# Altium footprint library HK32L08x-EVAL.PcbLib: 11 footprints
Each footprint in its own frame and in the unit in brackets; x right, y up, seen from the top. Pads: shape width x height; smd on the part's side, far side on the other; paste and mask are expansions set on the pad; w line width, h text height; cw(c..) or ccw(c..) is an arc to the next point about the centre after c.
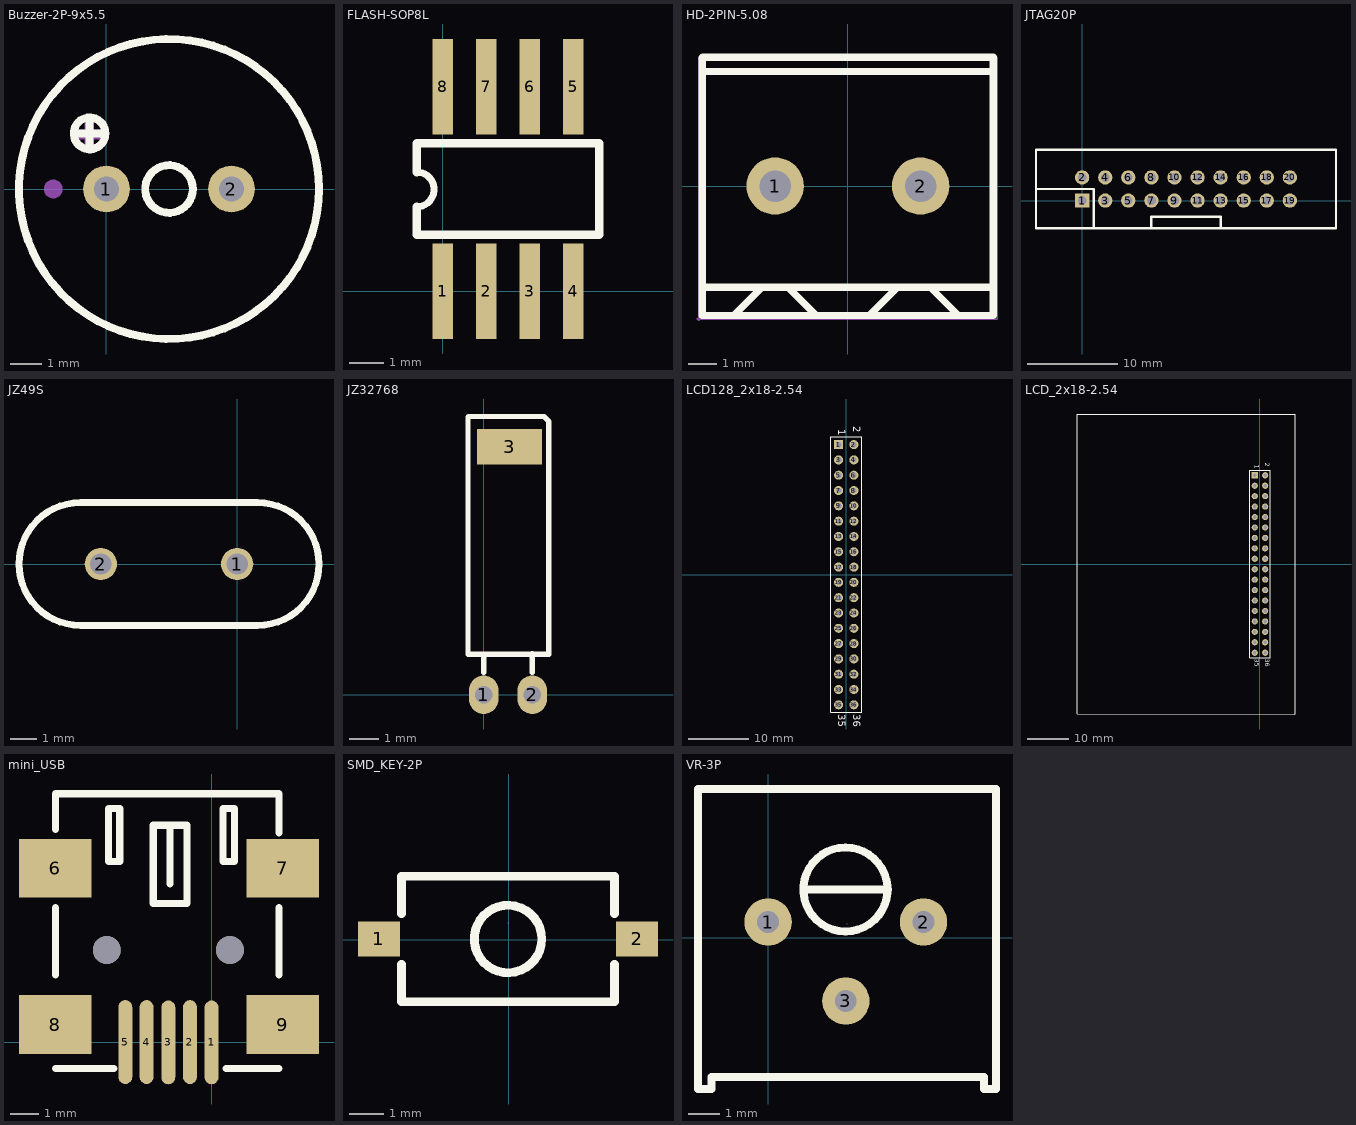
[diagram p0: the footprints below, top view; thin cyan lines are the x and y axes]

## Buzzer-2P-9x5.5 [mm]
pads (2):
  round 1.5 hole 0.8: 1(0,0) 2(4,0)
Top Overlay:
  circle w0.254: c-0.54,1.778 r0.508
  circle w0.254: c2,0 r0.762
  circle w0.254: c2,0 r4.8
  lines w0.254: -1.048,1.778 -0.032,1.778 ; -0.54,1.27 -0.54,2.286
Mechanical 15:
  circle w0.3: c-1.702,0 r0.15
  region: -1.1,1.6 -1.1,1.9 0,1.9 0,1.6
  region: -0.7,1.3 -0.7,2.2 -0.4,2.2 -0.4,1.3

## FLASH-SOP8L [mil]
pads (8):
  rect 24x110 smd: 1(0,0) 2(50,0) 3(100,0) 4(150,0) 5(150,235) 6(100,235) 7(50,235) 8(0,235)
Top Overlay:
  lines w8: -30,97 ccw(c-30,117) -30,137
  lines w10: -30,97 -30,65 180,65 180,170 -30,170 -30,137

## HD-2PIN-5.08 [mm]
pads (2):
  round 2 hole 1.1 mask+0.051: 1(-2.54,0) 2(2.54,0)
Top Overlay:
  lines w0.254: -5.08,-4.519 -5.08,4 ; -5.08,4.485 -5.08,4 ; -5.065,4.5 5.08,4.5 5.08,4 ; -5.055,-4.521 5.08,-4.521 5.08,4 ; -5.037,-3.531 5.08,-3.531 ; -3.97,-4.501 -3.01,-3.541 ; -2.08,-3.541 -1.12,-4.501 ; 0.749,-4.519 1.709,-3.559 ; 2.901,-3.559 3.861,-4.519 ; -5.08,4 5.08,4
Mechanical 15:
  region: -5.146,-4.648 -5.146,-4.623 -5.182,-4.587 -5.232,-4.587 -5.268,-4.623 -5.268,-4.648 -5.268,-4.673 -5.232,-4.709 -5.182,-4.709 -5.146,-4.673
  region: 3.091,0 3.091,0.11 3.007,0.312 2.852,0.467 2.65,0.551 2.43,0.551 2.228,0.467 2.073,0.312 1.989,0.11 1.989,0 1.989,-0.11 2.073,-0.312 2.228,-0.467 2.43,-0.551 2.65,-0.551 2.852,-0.467 3.007,-0.312 3.091,-0.11
  region: -1.989,0 -1.989,0.11 -2.073,0.312 -2.228,0.467 -2.43,0.551 -2.65,0.551 -2.852,0.467 -3.007,0.312 -3.091,0.11 -3.091,0 -3.091,-0.11 -3.007,-0.312 -2.852,-0.467 -2.65,-0.551 -2.43,-0.551 -2.228,-0.467 -2.073,-0.312 -1.989,-0.11
  lines w0.051: -5.207,-4.648 5.207,-4.648 5.207,4.5 -5.207,4.5 -5.207,-4.648

## JTAG20P [mil]
pads (20):
  rect 62x62 hole 38: 1(0,0)
  round 62 hole 38: 2(0,100) 3(100,0) 4(100,100) 5(200,0) 6(200,100) 7(300,0) 8(300,100) 9(400,0) 10(400,100) 11(500,0) 12(500,100) 13(600,0) 14(600,100) 15(700,0) 16(700,100) 17(800,0) 18(800,100) 19(900,0) 20(900,100)
Top Overlay:
  lines w10: -200,50 50,50 50,-120 ; 300,-120 300,-70 600,-70 600,-120 ; -200,-120 -200,220 1100,220 1100,-120 -200,-120

## JZ49S [mm]
pads (2):
  round 1.2 hole 0.8: 1(0,0) 2(-5.08,0)
Top Overlay:
  lines w0.254: -5.842,-2.286 cw(c-5.842,0) -5.842,2.286 0.762,2.286 cw(c0.762,0) 0.762,-2.286 -5.842,-2.286

## JZ32768 [mm]
pads (3):
  oval 1x1.3 hole 0.6: 1(0,0) 2(1.64,0)
  rect 2.2x1.2 smd: 3(0.875,8.382)
Top Overlay:
  lines w0.178: 0,0.762 0,1.37 ; 1.64,0.762 1.64,1.386 ; -0.53,1.37 2.2,1.37 2.2,8.77 2.2,9.23 2.032,9.398 -0.508,9.398 -0.53,9.376 -0.53,8.77 -0.53,1.37

## LCD128_2x18-2.54 [mm]
pads (36):
  rect 1.5x1.5 hole 0.9: 1(-1.27,21.59)
  round 1.5 hole 0.9: 2(1.27,21.59) 3(-1.27,19.05) 4(1.27,19.05) 5(-1.27,16.51) 6(1.27,16.51) 7(-1.27,13.97) 8(1.27,13.97) 9(-1.27,11.43) 10(1.27,11.43) 11(-1.27,8.89) 12(1.27,8.89) 13(-1.27,6.35) 14(1.27,6.35) 15(-1.27,3.81) 16(1.27,3.81) 17(-1.27,1.27) 18(1.27,1.27) 19(-1.27,-1.27) 20(1.27,-1.27) 21(-1.27,-3.81) 22(1.27,-3.81) 23(-1.27,-6.35) 24(1.27,-6.35) 25(-1.27,-8.89) 26(1.27,-8.89) 27(-1.27,-11.43) 28(1.27,-11.43) 29(-1.27,-13.97) 30(1.27,-13.97) 31(-1.27,-16.51) 32(1.27,-16.51) 33(-1.27,-19.05) 34(1.27,-19.05) 35(-1.27,-21.59) 36(1.27,-21.59)
Top Overlay:
  lines w0.2: -2.54,-22.86 2.54,-22.86 2.54,22.86 -2.54,22.86 -2.54,-22.86
  text "2" at 0.762,24.638 h2.03
  text "1" at -1.778,24.13 h2.03
  text "35" at -1.778,-23.114 h2.03
  text "36" at 0.762,-23.114 h2.03

## LCD_2x18-2.54 [mm]
pads (36):
  rect 1.5x1.5 hole 0.9: 1(-1.27,21.59)
  round 1.5 hole 0.9: 2(1.27,21.59) 3(-1.27,19.05) 4(1.27,19.05) 5(-1.27,16.51) 6(1.27,16.51) 7(-1.27,13.97) 8(1.27,13.97) 9(-1.27,11.43) 10(1.27,11.43) 11(-1.27,8.89) 12(1.27,8.89) 13(-1.27,6.35) 14(1.27,6.35) 15(-1.27,3.81) 16(1.27,3.81) 17(-1.27,1.27) 18(1.27,1.27) 19(-1.27,-1.27) 20(1.27,-1.27) 21(-1.27,-3.81) 22(1.27,-3.81) 23(-1.27,-6.35) 24(1.27,-6.35) 25(-1.27,-8.89) 26(1.27,-8.89) 27(-1.27,-11.43) 28(1.27,-11.43) 29(-1.27,-13.97) 30(1.27,-13.97) 31(-1.27,-16.51) 32(1.27,-16.51) 33(-1.27,-19.05) 34(1.27,-19.05) 35(-1.27,-21.59) 36(1.27,-21.59)
Top Overlay:
  lines w0.2: -44.5,-36.5 -44.5,36.5 8.5,36.5 8.5,-36.5 -44.5,-36.5 ; -2.54,-22.86 -2.54,22.86 2.54,22.86 2.54,-22.86 -2.54,-22.86
  text "36" at 0.762,-23.114 h2.03
  text "35" at -1.778,-23.114 h2.03
  text "1" at -1.778,24.13 h2.03
  text "2" at 0.762,24.638 h2.03

## mini_USB [mm]
pads (11):
  oval 0.5x3 smd: 1(0,0) 2(-0.775,0.009) 3(-1.549,0) 4(-2.324,0.009) 5(-3.086,0.009)
  rect 2.6x2.1 smd: 6(-5.588,6.223) 7(2.54,6.223) 8(-5.588,0.635) 9(2.54,0.635)
  round 1 hole 1: ""(-3.749,3.299) ""(0.651,3.299)
Top Overlay:
  lines w0.254: -5.588,2.413 -5.588,4.826 ; -5.586,-0.938 -3.486,-0.938 ; -5.586,7.62 -5.586,8.89 2.414,8.89 2.414,7.493 ; -1.486,5.662 -1.486,7.762 ; 0.514,-0.938 2.414,-0.938 ; 2.413,2.413 2.413,4.826 ; -3.686,6.462 -3.686,8.362 -3.286,8.362 -3.286,6.462 -3.686,6.462 ; -2.086,4.962 -0.886,4.962 -0.886,7.762 -2.086,7.762 -2.086,4.962 ; 0.414,6.462 0.414,8.362 0.814,8.362 0.814,6.462 0.414,6.462

## SMD_KEY-2P [mm]
pads (2):
  rect 1.2x1 smd: 1(-3.718,0.022) 2(3.682,0.022)
Top Overlay:
  circle w0.254: c-0.018,0.022 r0.967
  lines w0.254: -3.066,-0.703 -3.066,-1.778 -0.018,-1.778 3.03,-1.778 3.03,-0.703 ; -3.066,0.747 -3.066,1.822 -0.018,1.822 3.03,1.822 3.03,0.747
Mechanical 15:
  lines w0.003: -0.018,0.487 -0.018,0.488

## VR-3P [mm]
pads (3):
  round 1.524 hole 0.7: 1(0,0.5) 2(5,0.5) 3(2.5,-2.04)
Top Overlay:
  lines w0.254: 1.146,1.549 3.857,1.549 ; 2.475,0.195 cw(c2.488,1.548) 2.501,0.195 ; 7.25,4.78 -2.25,4.78 -2.25,-4.872 -1.818,-4.872 -1.818,-4.491 6.945,-4.491 6.945,-4.872 7.326,-4.872 7.326,4.78
Mechanical 15:
  lines w0.003: 2.538,0.442 2.538,0.443